# Altium schematic symbol library Diodes.SchLib: 23 symbols
Pins are listed as number, name and electrical type; pins without a type are passive.

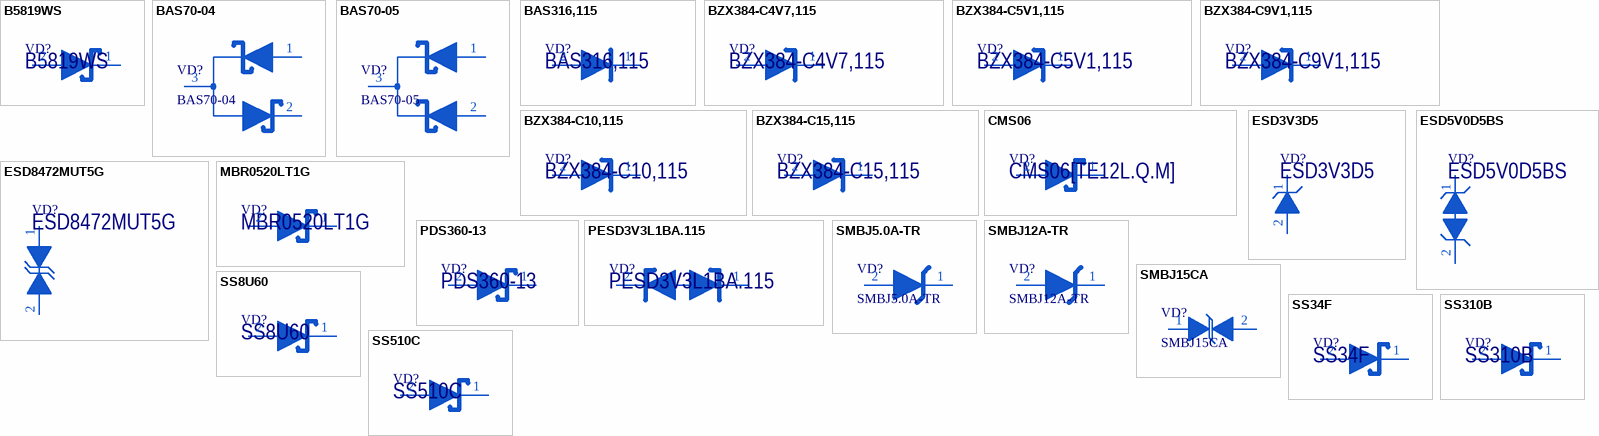
[diagram p0: symbols B5819WS to SS510C]

## B5819WS
designator VD?
1A Schottky barrier rectifier; Manufacturer: SUNCOYJ; Marking: SL; ItemType: Diode; Package: SOD-323; PartNumber: B5819WS; ItemSubType: Schottky; Mounting: SMD
footprint SOD323
pins: 1 C, 2 A

## BAS70-04
designator VD?
Small Signal Schottky Diodes; Marking: K7D or 74W; ItemType: Diode; Manufacturer: Diodes; PartNumber: BAS70-04; Package: SOT23-3; ItemSubType: Schottky; Mounting: SMD
footprint SOT23_TO236AB (TO236AB (SOT23-3), 3-Leads, Body 1.30x2.90mm, Pitch 0.95mm)
pins: 1 C, 2 A, 3 A

## BAS70-05
designator VD?
Small Signal Schottky Diodes; Marking: K7E or 75W; ItemType: Diode; Manufacturer: Diodes; PartNumber: BAS70-05; Package: SOT23-3; ItemSubType: Schottky; Mounting: SMD
footprint SOT23_TO236AB (TO236AB (SOT23-3), 3-Leads, Body 1.30x2.90mm, Pitch 0.95mm)
pins: 1 C, 2 A, 3 A

## BAS316,115
designator VD?
High-speed switching diodes; Manufacturer: Nexperia; Marking: A6; ItemType: Diode; ItemSubType: High Speed; Package: SOD-323; PartNumber: BAS316,115; Mounting: SMD
footprint SOD323
pins: 1 C, 2 A

## BZX384-C4V7,115
designator VD?
Voltage regulator diodes 4.7V; Manufacturer: Nexperia USA Inc.; AltManufacturer1: SUNCOYJ; Marking: T0; Alternative1: BZT52C4V7S; ItemType: Diode; ItemSubType: Zener; Package: SOD-323; PartNumber: BZX384-C4V7,115; Mounting: SMD
footprint SOD323
pins: 1 C, 2 A

## BZX384-C5V1,115
designator VD?
Voltage regulator diodes 5.1V; Manufacturer: Nexperia USA Inc.; AltManufacturer1: SUNCOYJ; Marking: D5; Alternative1: BZT52C9V1S; ItemType: Diode; ItemSubType: Zener; Package: SOD-323; PartNumber: BZX384-C5V1,115; Mounting: SMD
footprint SOD323
pins: 1 C, 2 A

## BZX384-C9V1,115
designator VD?
Voltage regulator diodes 9.1V; Manufacturer: Nexperia USA Inc.; AltManufacturer1: SUNCOYJ; Marking: D0; Alternative1: BZT52C9V1S; ItemType: Diode; ItemSubType: Zener; Package: SOD-323; PartNumber: BZX384-C9V1,115; Mounting: SMD
footprint SOD323
pins: 1 C, 2 A

## BZX384-C10,115
designator VD?
Voltage regulator diodes 10V; Manufacturer: Nexperia USA Inc.; AltManufacturer1: SUNCOYJ; Marking: T2; Alternative1: BZT52C10S; ItemType: Diode; ItemSubType: Zener; Package: SOD-323; PartNumber: BZX384-C10,115; Mounting: SMD
footprint SOD323
pins: 1 C, 2 A

## BZX384-C15,115
designator VD?
Voltage regulator diodes 15V; Manufacturer: Nexperia USA Inc.; AltManufacturer1: SUNCOYJ; Marking: DD; Alternative1: BZT52C15S; ItemType: Diode; ItemSubType: Zener; Package: SOD-323; PartNumber: BZX384-C15,115; Mounting: SMD
footprint SOD323
pins: 1 C, 2 A

## CMS06
designator VD?, comment CMS06[TE12L.Q.M]
2A @ 30V Schottky barrier rectifier; Manufacturer: Toshiba; Marking: S6; ItemType: Diode; Package: M-FLAT(SOD-128); PartNumber: CMS06[TE12L.Q.M]; ItemSubType: Schottky; Mounting: SMD
footprint MFLAT_CMS06 (Toshiba M-FLAT package, ref 3-4E1A)
pins: 1 C, 2 A

## ESD3V3D5
designator VD?
ESD Protection Diode; Manufacturer: SUNCOYJ; Marking: F2; ItemSubType: Suppressor; Package: SOD-523; PartNumber: ESD3V3D5; ItemType: Diode; Mounting: SMD
footprint SOD523 (SOD-523 (SC79), 2-Leads, Body 0.85x1.30mm)
pins: 1 M, 2 AC1

## ESD5V0D5BS
designator VD?
1-Line, Bi-directional, Transient Voltage Suppressor ±5V; Manufacturer: SUNCOYJ; Marking: 5A; ItemType: Diode; Package: SOD-523; PartNumber: ESD5V0D5BS; ItemSubType: Suppressor; Mounting: SMD
footprint SOD523 (SOD-523 (SC79), 2-Leads, Body 0.85x1.30mm)
pins: 1 M, 2 AC1

## ESD8472MUT5G
designator VD?
ESD Protection Diode; Manufacturer: On Semiconductor; Marking: 4x; Package: X3DFN2; PartNumber: ESD8472MUT5G; ItemType: Diode; ItemSubType: ESD; Mounting: SMD
footprint X3DFN2 (X3DFN2, 2-Leads, Body 0.32x0.62mm)
pins: 1 M, 2 AC1

## MBR0520LT1G
designator VD?
0.5A Schottky barrier rectifier; Manufacturer: On Semiconductor; Marking: B2; ItemType: Diode; Package: SOD-123; PartNumber: MBR0520LT1G; ItemSubType: Schottky; Mounting: SMD
footprint SOD123 (SOD123, 2-Leads, Body 1.60x2.7mm)
pins: 1 C, 2 A

## PDS360-13
designator VD?
3A @ 60V Schottky barrier rectifier; Manufacturer: Diodes; Marking: S360; ItemType: Diode; Package: PowerDI5(TO-277A); PartNumber: PDS360-13; ItemSubType: Schottky; Mounting: SMD
footprint PowerDI5 (PowerDI5 Case (like TO-277A))
pins: 1 C, 2 A

## PESD3V3L1BA.115
designator VD?
Low capacitance bidirectional ESD protection diode; Manufacturer: Nexperia USA Inc.; Marking: AB; Package: SOT23-3; PartNumber: PESD3V3L1BA.115; ItemType: Diode; ItemSubType: ESD; Mounting: SMD
footprint SOD323
pins: 1 C, 2 A

## SMBJ5.0A-TR
designator VD?
5V Transient Voltage Unidirectional Suppressors; Manufacturer: STMicroelectronics; Marking: BUZ; ItemType: Diode; PartNumber: SMBJ5.0A-TR; Package: DO214AA (SMB); ItemSubType: Suppressor; Mounting: SMD
footprint SMB_JEDEC_DO214AA (DO-214AA, Body  5mm x 3.3mm)
pins: 1 C, 2 A

## SMBJ12A-TR
designator VD?
12V Transient Voltage Unidirectional Suppressors; Manufacturer: STMicroelectronics; Marking: BUE; ItemType: Diode; PartNumber: SMBJ12A-TR; Package: DO214AA (SMB); ItemSubType: Suppressor; Mounting: SMD
footprint SMB_JEDEC_DO214AA (DO-214AA, Body  5mm x 3.3mm)
pins: 1 C, 2 A

## SMBJ15CA
designator VD?
15V Transient Voltage Bidirectional Suppressors; Manufacturer: STMicroelectronics; Marking: BBG; ItemType: Diode; PartNumber: SMBJ15CA; Package: DO214AA (SMB); ItemSubType: Suppressor; Mounting: SMD
footprint SMB_JEDEC_DO214AA (DO-214AA, Body  5mm x 3.3mm)
pins: 1 M, 2 AC1

## SS8U60
designator VD?
8A Schottky barrier rectifier; Manufacturer: SUNCOYJ; AltManufacturer1: LRC; Alternative1: SBR830; ItemType: Diode; Package: TO-277A; PartNumber: SS8U60; Marking: SS8U60; ItemSubType: Schottky; Mounting: SMD
footprint TO277A (TO277A, 3-Pads, Body 4.6x6.5mm (max))
pins: 1 C, 2 A

## SS34F
designator VD?
3A Schottky barrier rectifier; Manufacturer: UMW; ItemType: Diode; Package: SMAF; PartNumber: SS34F; Marking: SS34F; ItemSubType: Schottky; Mounting: SMD
footprint SMA-FL (SMA-FL Case 403AA Style 6)
pins: 1 C, 2 A

## SS310B
designator VD?
Diode Schottky 100V, 3A; Manufacturer: UMW; Package: SMB(DO-214AA); PartNumber: SS310B; Marking: SS310B; ItemType: Diode; ItemSubType: Schottky; Mounting: SMD
footprint SMB_JEDEC_DO214AA (DO-214AA, Body  5mm x 3.3mm)
pins: 1 C, 2 A

## SS510C
designator VD?
Diode Schottky 100V, 5A; Manufacturer: UMW; Package: SMC (DO-214AB); PartNumber: SS510C; Marking: SS510C; ItemType: Diode; ItemSubType: Schottky; Mounting: SMD
footprint SMC_JEDEC_DO214AB (DO-214AB, Body  5.9mm x 6.85mm)
pins: 1 C, 2 A